# EAGLE library part M41T82ZM6F (library arducorder-mini)
ST Electronics M41T82 Real-time clock (RTC) with Serial I2C interface and battery switchover
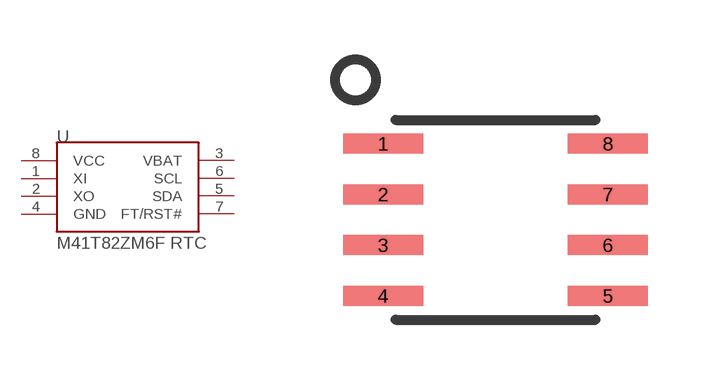
[diagram p22: symbol with the pads of 8-SOIC; footprint 8-SOIC]

Designator prefix -

## M41T82ZM6F  [8-SOIC]
1  XI
2  XO
3  VBAT
4  GND
5  SDA
6  SCL
7  FT/RST#
8  VCC

## Footprint 8-SOIC (pad centres in mm)
smd 2 x 0.5: 1 -2.81,1.905; 2 -2.81,0.635; 3 -2.81,-0.635; 4 -2.81,-1.905; 5 2.81,-1.905; 6 2.81,-0.635; 7 2.81,0.635; 8 2.81,1.905